# Altium schematic symbol library 0533981371.SchLib: 1 symbol
Pins are listed as number, name and electrical type; pins without a type are passive.

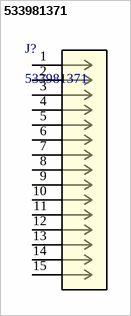
[diagram p0: symbol 533981371]

## 533981371
designator J?
No Description Available; PartNumber: 0533981371; Manufacturer: Molex; PartDescription: CONN HEADER SMD 13POS 1.25MM; Vendor: Molex Connector Corporation; Built_By: Molex_Team; SourceLibrary: Add_to_database_2021-02-22; Manufacturer_Part_Number: 533981371; Copyright: Copyright (C) 2018 Accelerated Designs. All rights reserved; RefDes: RefDes; Type: DEV; Package Type: 13 SMD; Supplier 1: Digi-Key; Supplier Part Number 1: WM7617CT-ND
footprint 533981371
pins: 1, 2, 3, 4, 5, 6, 7, 8, 9, 10, 11, 12, 13, 14, 15